# Altium schematic symbol library Buttons.SchLib: 1 symbol
Pins are listed as number, name and electrical type; pins without a type are passive.

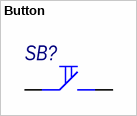
[diagram p0: symbol Button]

## Button
designator SB?  (value not drawn)
Value: *; Other: *
footprint Tact Button_6x6 (6x6 mm)
pins: 1, 2